# EAGLE library part GND_OP (library macros)
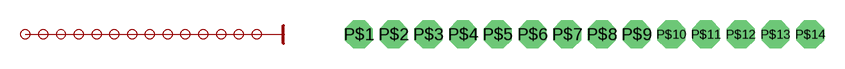
[diagram p0: symbol with the pads of GND_OP; footprint GND_OP]

Designator prefix $

## GND_OP  [GND_OP]
P$1  GND  pwr
P$2  GND  pwr
P$3  GND  pwr
P$4  GND  pwr
P$5  GND  pwr
P$6  GND  pwr
P$7  GND  pwr
P$8  GND  pwr
P$9  GND  pwr
P$10  GND  pwr
P$11  GND  pwr
P$12  GND  pwr
P$13  GND  pwr
P$14  GND  pwr

## Footprint GND_OP (pad centres in mm)
drill 0.813 pad 2.032 octagon: P$1 0,0; P$2 2.54,0; P$3 5.08,0; P$4 7.62,0; P$5 10.16,0; P$6 12.7,0; P$7 15.24,0; P$8 17.78,0; P$9 20.32,0; P$10 22.86,0; P$11 25.4,0; P$12 27.94,0; P$13 30.48,0; P$14 33.02,0